# Altium schematic symbol library STM32F103CBT6_Library.SchLib: 1 symbol
Pins are listed as number, name and electrical type; pins without a type are passive.

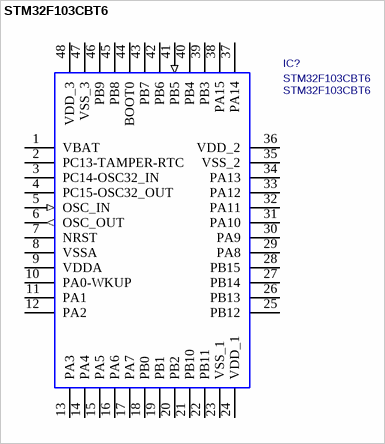
[diagram p0: symbol STM32F103CBT6]

## STM32F103CBT6
designator IC?
STM32F103CBT6, 32 bit ARM Cortex M3 , 72MHz, 128 kB ROM , 20 kB RAM USB CAN I2C, 48 LQFP; Manufacturer_Name: STMicroelectronics; VDD_MIN: -0.3; VDD_MAX: 4; ICC: 150m; IOUT_MIN: 25m; RJA: 55; SUBTYPE: MCU SMD; POWER: 363m; TJ: 150; TECHNOLOGY: CMOS_TTL; IOUT_MAX: 25m; PACKAGE: LQFP-48; Height: 1.6 mm; Datasheet Link: http://www.st.com/st-web-ui/static/active/en/resource/technical/document/datasheet/CD00161566.pdf; Manufacturer_Part_Number: STM32F103CBT6; Mouser Price/Stock: https://www.mouser.co.uk/ProductDetail/STMicroelectronics/STM32F103CBT6?qs=WxFF5lh7QM3goh6GV5Ogig%3D%3D; Mouser Part Number: 511-STM32F103CBT6; Value: STM32F103CBT6
footprint QFP50P900X900X160-48N
pins: 1 VBAT (power), 2 PC13-TAMPER-RTC, 3 PC14-OSC32_IN, 4 PC15-OSC32_OUT, 5 OSC_IN (in), 6 OSC_OUT (out), 7 NRST, 8 VSSA (power), 9 VDDA (power), 10 PA0-WKUP, 11 PA1, 12 PA2, 13 PA3, 14 PA4, 15 PA5, 16 PA6, 17 PA7, 18 PB0, 19 PB1, 20 PB2, 21 PB10, 22 PB11, 23 VSS_1 (power), 24 VDD_1 (power), 25 PB12 (power), 26 PB13 (power), 27 PB14, 28 PB15, 29 PA8, 30 PA9, 31 PA10, 32 PA11, 33 PA12, 34 PA13, 35 VSS_2, 36 VDD_2, 37 PA14 (power), 38 PA15 (power), 39 PB3, 40 PB4, 41 PB5 (in), 42 PB6, 43 PB7, 44 BOOT0, 45 PB8, 46 PB9, 47 VSS_3, 48 VDD_3